# Altium schematic symbol library DLW5BS.Schlib: 1 symbol
Pins are listed as number, name and electrical type; pins without a type are passive.

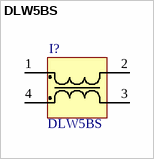
[diagram p0: symbol DLW5BS]

## DLW5BS
designator I?
Назначение: Связанная индуктивность; Наименование: DLW5BS
pins: 1, 2, 3, 4